# Altium schematic symbol library HW-20-16-F-D-250-SM-A.SchLib: 1 symbol
Pins are listed as number, name and electrical type; pins without a type are passive.

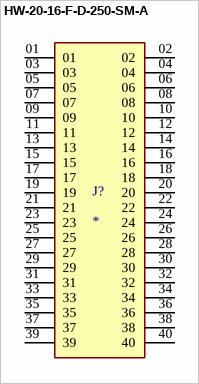
[diagram p0: symbol HW-20-16-F-D-250-SM-A]

## HW-20-16-F-D-250-SM-A
designator J?
MP: HW-20-16-F-D-250-SM-A; Package: None; Price: None; Value: *; Availability: Unavailable
footprint SAMTEC_HW-20-16-F-D-250-SM-A
pins: 01, 02, 03, 04, 05, 06, 07, 08, 09, 10, 11, 12, 13, 14, 15, 16, 17, 18, 19, 20, 21, 22, 23, 24, 25, 26, 27, 28, 29, 30, 31, 32, 33, 34, 35, 36, 37, 38, 39, 40